# Altium schematic symbol library SE2431L-R.SchLib: 1 symbol
Pins are listed as number, name and electrical type; pins without a type are passive.

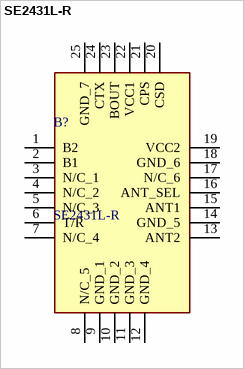
[diagram p0: symbol SE2431L-R]

## SE2431L-R
designator B?
RF Front End 2.4GHz Zigbee Rx Gain 12.5 dB; Manufacturer_Name: Skyworks; Geometry.Height: 0.9mm; Mouser Part Number: 873-SE2431L-R; Mouser Price/Stock: https://www.mouser.co.uk/ProductDetail/Skyworks-Solutions-Inc/SE2431L-R?qs=WMHGlxXAKT%2F78rTVRPIOpw%3D%3D; Manufacturer_Part_Number: SE2431L-R; Datasheet Link: https://datasheet.datasheetarchive.com/originals/distributors/DKDS-19/379164.pdf
footprint QFN40P300X400X90-25N-D
pins: 1 B2, 2 B1, 3 N/C_1, 4 N/C_2, 5 N/C_3, 6 T/R, 7 N/C_4, 8 N/C_5, 9 GND_1, 10 GND_2, 11 GND_3, 12 GND_4, 13 ANT2, 14 GND_5, 15 ANT1, 16 ANT_SEL, 17 N/C_6, 18 GND_6, 19 VCC2, 20 CSD, 21 CPS, 22 VCC1, 23 BOUT, 24 CTX, 25 GND_7